# EAGLE library part ADP5091 (library chips)
Ultralow Power Energy Harvester PMU with MPPT and Charge Management with Backup
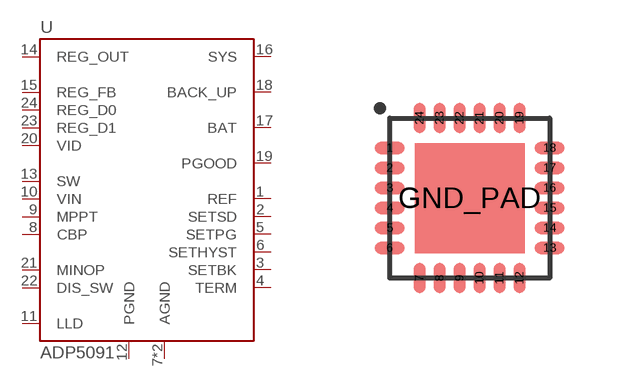
[diagram p83: symbol with the pads of QFN-24-4MM; footprint QFN-24-4MM]

Designator prefix U

## ADP5091 (DIGIKEY: ADP5091ACPZ-1-R7CT-ND; MANUFACTURER: ANALOG DEVICES; MPN: ADP5091ACPZ-1-R7)  [QFN-24-4MM]
1  REF
2  SETSD
3  SETBK
4  TERM
5  SETPG
6  SETHYST
7  AGND
8  CBP
9  MPPT
10  VIN
11  LLD
12  PGND
13  SW
14  REG_OUT
15  REG_FB
16  SYS
17  BAT
18  BACK_UP
19  PGOOD
20  VID
21  MINOP
22  DIS_SW
23  REG_D1
24  REG_D0
GND_PAD  AGND

## Footprint QFN-24-4MM (pad centres in mm)
4mm x 4mm QFN-24
smd 0.75 x 0.3: 1 -2,1.25; 2 -2,0.75; 3 -2,0.25; 4 -2,-0.25; 5 -2,-0.75; 6 -2,-1.25; 13 2,-1.25; 14 2,-0.75; 15 2,-0.25; 16 2,0.25; 17 2,0.75; 18 2,1.25
smd 0.3 x 0.75: 7 -1.25,-2; 8 -0.75,-2; 9 -0.25,-2; 10 0.25,-2; 11 0.75,-2; 12 1.25,-2; 19 1.25,2; 20 0.75,2; 21 0.25,2; 22 -0.25,2; 23 -0.75,2; 24 -1.25,2
smd 2.75 x 2.75: GND_PAD 0,0